# Altium integrated library 691312510002.IntLib: 1 symbol
Pins are listed as number, name and electrical type; pins without a type are passive.

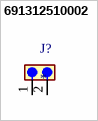
[diagram p0: symbol 691312510002]

## 691312510002
designator J?
MF: {'manufacturer': u'W\xfcrth Elektronik'}; MP: 691312510002; Package: None; Price: None; Value: *; Availability: Unavailable
footprint 691312510002
pins: 1, 2